# Altium schematic symbol library SelfDrivingCar_Project.SCHLIB: 54 symbols (part 1 of 2)
Pins are listed as number, name and electrical type; pins without a type are passive.

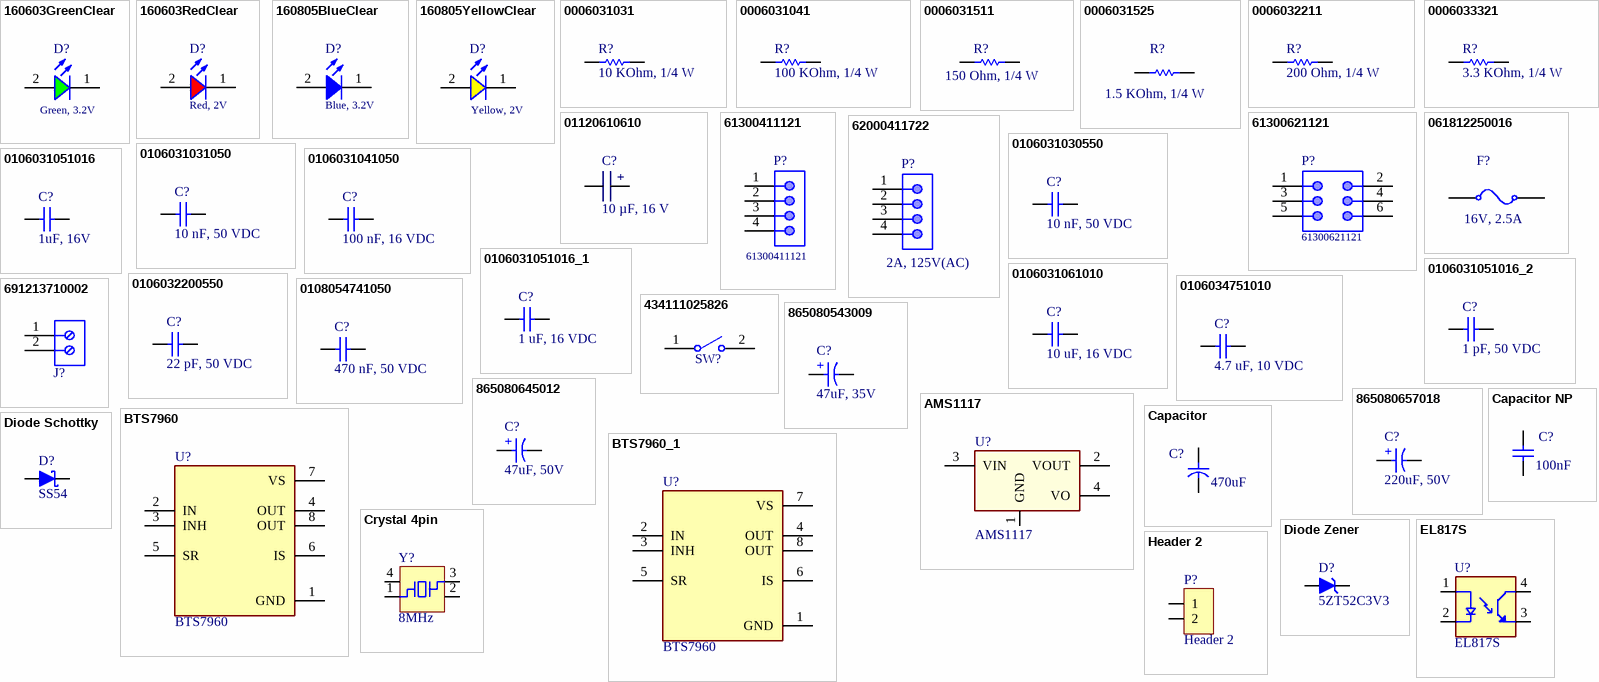
[diagram p0: symbols 160603GreenClear to Header 2]

## 160603GreenClear
designator D?, comment Green, 3.2V
WL-SMCW SMT Mono-color Chip LED Waterclear, size 0603, Green, 3.2V, 140deg; Type: Clear; Color: Green; Size: 0603; ComponentLink1Description: Datasheet link; ComponentLink1URL: N/A; ComponentLink2Description: Supplier 1 URL; ComponentLink2URL: https://www.mouser.vn/ProductDetail/Wurth-Elektronik/150060GS75000?qs=LlUlMxKIyB0UYkq5lDO8nA%3D%3D; ComponentLink3Description: Supplier 2 URL; ComponentLink3URL: https://www.digikey.com/en/products/detail/liteon/LTST-C191KGKT/386835; ComponentLink4Description: Supplier 3 URL; ComponentLink4URL: https://www.thegioiic.com/led-xanh-la-0603-dan-smd-trong-suot; Supplier 1 Name: Mouser; Supplier 1 SN: 710-150060GS75000; Supplier 1 URL: https://www.mouser.vn/ProductDetail/Wurth-Elektronik/150060GS75000?qs=LlUlMxKIyB0UYkq5lDO8nA%3D%3D; Supplier 2 Name: Digi-Key; Supplier 2 SN: 160-1446-2-ND; Supplier 2 URL: https://www.digikey.com/en/products/detail/liteon/LTST-C191KGKT/386835; Supplier 3 Name: ICDayRoi; Supplier 3 SN: N/A; Supplier 3 URL: https://www.thegioiic.com/led-xanh-la-0603-dan-smd-trong-suot; Value: Green, 3.2V
footprint WL-SMCW_0603_H=0.7mm (SMD Mono-color Chip LED, body 1.6x0.8mm)
pins: 1 K, 2 A

## 160603RedClear
designator D?, comment Red, 2V
WL-SMCW SMT Mono-color Chip LED Waterclear, size 0603, Red, 2V, 140deg; Type: Clear; Color: Red; Size: 0603; ComponentLink1Description: Datasheet link; ComponentLink1URL: N/A; ComponentLink2Description: Supplier 1 URL; ComponentLink2URL: https://www.mouser.vn/ProductDetail/Wurth-Elektronik/150060RS75000?qs=LlUlMxKIyB3QnmZ3fw%2FVCA%3D%3D; ComponentLink3Description: Supplier 2 URL; ComponentLink3URL: https://www.digikey.com/en/products/detail/liteon/LTST-C191KRKT/386837; ComponentLink4Description: Supplier 3 URL; ComponentLink4URL: https://www.thegioiic.com/led-do-0603-dan-smd-trong-suot; Supplier 1 Name: Mouser; Supplier 1 SN: 710-150060RS75000; Supplier 1 URL: https://www.mouser.vn/ProductDetail/Wurth-Elektronik/150060RS75000?qs=LlUlMxKIyB3QnmZ3fw%2FVCA%3D%3D; Supplier 2 Name: Digi-Key; Supplier 2 SN: 160-1447-2-ND; Supplier 2 URL: https://www.digikey.com/en/products/detail/liteon/LTST-C191KRKT/386837; Supplier 3 Name: ICDayRoi; Supplier 3 SN: N/A; Supplier 3 URL: https://www.thegioiic.com/led-do-0603-dan-smd-trong-suot; Value: Red, 2V
footprint WL-SMCW_0603_H=0.7mm (SMD Mono-color Chip LED, body 1.6x0.8mm)
pins: 1 K, 2 A

## 160805BlueClear
designator D?, comment Blue, 3.2V
WL-SMCW SMT Mono-color Chip LED Waterclear, size 0805, Blue, 3.2V, 140deg; Type: Clear; Color: Blue; Size: 0603; ComponentLink1Description: Datasheet link; ComponentLink1URL: N/A; ComponentLink2Description: Supplier 1 URL; ComponentLink2URL: https://www.mouser.vn/ProductDetail/Wurth-Elektronik/150080BS75000?qs=2kOmHSv6VfT2tBo3UPVqAQ%3D%3D; ComponentLink3Description: Supplier 2 URL; ComponentLink3URL: https://www.digikey.com/en/products/detail/liteon/LTST-C170TBKT/388527; ComponentLink4Description: Supplier 3 URL; ComponentLink4URL: https://www.thegioiic.com/led-xanh-duong-0805-dan-smd-trong-suot-harvatek; Supplier 1 Name: Mouser; Supplier 1 SN: 710-150080BS75000; Supplier 1 URL: https://www.mouser.vn/ProductDetail/Wurth-Elektronik/150080BS75000?qs=2kOmHSv6VfT2tBo3UPVqAQ%3D%3D; Supplier 2 Name: Digi-Key; Supplier 2 SN: 160-1579-2-ND; Supplier 2 URL: https://www.digikey.com/en/products/detail/liteon/LTST-C170TBKT/388527; Supplier 3 Name: ICDayRoi; Supplier 3 SN: N/A; Supplier 3 URL: https://www.thegioiic.com/led-xanh-duong-0805-dan-smd-trong-suot-harvatek; Value: Blue, 3.2V
footprint WL-SMCW_0805 (SMD Mono-color Chip LED, body 2.0x1.25mm)
pins: 1 K, 2 A

## 160805YellowClear
designator D?, comment Yellow, 2V
WL-SMCW SMT Mono-color Chip LED Waterclear, size 0805, Yellow, 2V, 140deg; Type: Clear; Color: Yellow; Size: 0603; ComponentLink1Description: Datasheet link; ComponentLink1URL: N/A; ComponentLink2Description: Supplier 1 URL; ComponentLink2URL: https://www.mouser.vn/ProductDetail/Wurth-Elektronik/150080YS75000?qs=LlUlMxKIyB3k0fZGrDMI2w%3D%3D; ComponentLink3Description: Supplier 2 URL; ComponentLink3URL: https://www.digikey.com/en/products/detail/liteon/LTST-C170KSKT/386781; ComponentLink4Description: Supplier 3 URL; ComponentLink4URL: https://www.thegioiic.com/led-vang-0805-dan-smd-trong-suot-harvatek; Supplier 1 Name: Mouser; Supplier 1 SN: 710-150080YS75000; Supplier 1 URL: https://www.mouser.vn/ProductDetail/Wurth-Elektronik/150080YS75000?qs=LlUlMxKIyB3k0fZGrDMI2w%3D%3D; Supplier 2 Name: Digi-Key; Supplier 2 SN: 160-1416-2-ND; Supplier 2 URL: https://www.digikey.com/en/products/detail/liteon/LTST-C170KSKT/386781; Supplier 3 Name: ICDayRoi; Supplier 3 SN: N/A; Supplier 3 URL: https://www.thegioiic.com/led-vang-0805-dan-smd-trong-suot-harvatek; Value: Yellow, 2V
footprint WL-SMCW_0805 (SMD Mono-color Chip LED, body 2.0x1.25mm)
pins: 1 K, 2 A

## 0006031031
designator R?, comment 10 KOhm, 1/4 W
RES, size 0603, 10 KOhm, 1/4 W; Manufacture  Name: OEM; Resistance: 10 KOhm; Rated Power: 1/4 W; Resistance Tolerance: +/-1%; Size: 0603; Mounting Technology: SMT; Supplier 1 Name: Mouser; Supplier 1 SN: 755-ESR03EZPF1002; Supplier 2 Name: Digi-Key; Supplier 2 SN: RHM10KADTR-ND RHM10KADCT-ND RHM10KADDKR-ND; Supplier 1 URL: https://www.mouser.vn/ProductDetail/ROHM-Semiconductor/ESR03EZPF1002?qs=sGAEpiMZZMvdGkrng054t67Efho1F8r6CDeAsqwFse8%3D; Supplier 3 Name: thegioiic; Supplier 3 SN: N/A; Supplier 3 URL: https://www.thegioiic.com/dien-tro-10-kohm-0603-1-; Manufacture  SN: OEM; Value: 10 KOhm, 1/4 W; ComponentLink1Description: Datasheet link; ComponentLink1URL: https://fscdn.rohm.com/en/products/databook/datasheet/passive/resistor/chip_resistor/esr-e.pdf; ComponentLink2Description: Supplier 1 URL; ComponentLink2URL: N/A; ComponentLink3Description: Supplier 2 URL; ComponentLink3URL: https://www.digikey.com/en/products/detail/rohm-semiconductor/ESR03EZPF1002/1983429; ComponentLink4Description: Supplier 3 URL; ComponentLink4URL: N/A; Supplier 2 URL: https://www.digikey.com/en/products/detail/rohm-semiconductor/ESR03EZPF1002/1983429
footprint resistor_0603
pins: 1, 2

## 0006031041
designator R?, comment 100 KOhm, 1/4 W
RES, size 0603, 100 KOhm, 1/4 W; Manufacture  Name: OEM; Rated Power: 1/4 W; Resistance Tolerance: +/-1%; Resistance: 100 KOhm; Size: 0603; Mounting Technology: SMT; Supplier 1 Name: Mouser; Supplier 1 SN: 603-SR0603FR-7T100KL; Supplier 2 Name: Digi-Key; Supplier 2 SN: YAG5821TR-ND YAG5821CT-ND YAG5821DKR-ND; Supplier 1 URL: https://www.mouser.vn/ProductDetail/YAGEO/SR0603FR-7T100KL?qs=sGAEpiMZZMvdGkrng054tz1y1XEHv7sNa%252BA%2F4WiDMf7aGw4zRBb%2FFQ%3D%3D; Supplier 3 Name: thegioiic; Supplier 3 SN: N/A; Supplier 3 URL: https://www.thegioiic.com/dien-tro-100-kohm-0603-1-; Manufacture  SN: OEM; Value: 100 KOhm, 1/4 W; ComponentLink1Description: Datasheet link; ComponentLink1URL: https://www.yageo.com/upload/media/product/productsearch/datasheet/rchip/PYu-SR_20105_RoHS_L_10.pdf; ComponentLink2Description: Supplier 1 URL; ComponentLink2URL: N/A; ComponentLink3Description: Supplier 2 URL; ComponentLink3URL: https://www.digikey.com/en/products/detail/yageo/SR0603FR-7T100KL/9373095; ComponentLink4Description: Supplier 3 URL; ComponentLink4URL: N/A; Supplier 2 URL: https://www.digikey.com/en/products/detail/yageo/SR0603FR-7T100KL/9373095
footprint resistor_0603
pins: 1, 2

## 0006031511
designator R?, comment 150 Ohm, 1/4 W
RES, size 0603, 150 Ohm, 1/4 W; Manufacture  Name: OEM; Resistance: 150 Ohm; Rated Power: 1/4 W; Resistance Tolerance: +/-1%; Size: 0603; Mounting Technology: SMT; Supplier 1 Name: Mouser; Supplier 1 SN: 667-ERJ-UP3F1500V; Supplier 2 Name: Digi-Key; Supplier 2 SN: 10-ERJ-UP3F1500VTR-ND 10-ERJ-UP3F1500VCT-ND 10-ERJ-UP3F1500VDKR-ND; Supplier 1 URL: https://www.mouser.vn/ProductDetail/Panasonic/ERJ-UP3F1500V?qs=sGAEpiMZZMvdGkrng054twq3eZrCFN89aN9HHZ6KB345kfMKb%252BB8mQ%3D%3D; Supplier 3 Name: thegioiic; Supplier 3 SN: N/A; Supplier 3 URL: https://thegioiic.com/dien-tro-150-ohm-0603-1-; Manufacture  SN: OEM; Value: 150 Ohm, 1/4 W; ComponentLink1Description: Datasheet link; ComponentLink1URL: https://api.pim.na.industrial.panasonic.com/file_stream/main/fileversion/4484; ComponentLink2Description: Supplier 1 URL; ComponentLink2URL: N/A; ComponentLink3Description: Supplier 2 URL; ComponentLink3URL: N/A; ComponentLink4Description: Supplier 3 URL; ComponentLink4URL: N/A; Supplier 2 URL: N/A
footprint resistor_0603
pins: 1, 2

## 0006031525
designator R?, comment 1.5 KOhm, 1/4 W
RES, size 0603, 1.5 KOhm, 1/4 W; Manufacture  Name: Panasonic; Rated Power: 1/4 W; Resistance Tolerance: +/-5%; Size: 0603; Mounting Technology: SMT; Resistance: 1.5 KOhm; Supplier 1 Name: Mouser; Supplier 1 SN: 667-ERJ-PA3J152V; Supplier 1 URL: https://www.mouser.vn/ProductDetail/Panasonic/ERJ-PA3J152V?qs=BzJM0faLVqVoRX2ZXjooUw%3D%3D; Supplier 2 Name: Digi-Key; Supplier 2 SN: P1.5KBZTR-ND - Tape & Reel (TR); Supplier 3 Name: thegioiic; Supplier 3 SN: N/A; Supplier 3 URL: https://www.thegioiic.com/dien-tro-1-5-kohm-0603-1-; Manufacture  SN: https://www.mouser.vn/ProductDetail/Panasonic/ERJ-PA3J152V?qs=BzJM0faLVqVoRX2ZXjooUw%3D%3D; Value: 1.5 KOhm, 1/4 W; ComponentLink1Description: Datasheet link; ComponentLink1URL: https://www.mouser.vn/datasheet/2/315/Panasonic_Resistors_Thick_Film_Anti_Sulf_Anti_Surg-1825099.pdf; ComponentLink2Description: Supplier 1 URL; ComponentLink2URL: N/A; ComponentLink3Description: Supplier 2 URL; ComponentLink3URL: https://www.digikey.com/en/products/detail/panasonic-electronic-components/ERJ-PA3J152V/5035991?s=N4IgTCBcDaIGxwOwFoCiAlAUsgCgQQGZMBGAVjADUQBdAXyA; ComponentLink4Description: Supplier 3 URL; ComponentLink4URL: N/A; Supplier 2 URL: https://www.digikey.com/en/products/detail/panasonic-electronic-components/ERJ-PA3J152V/5035991?s=N4IgTCBcDaIGxwOwFoCiAlAUsgCgQQGZMBGAVjADUQBdAXyA
footprint resistor_0603
pins: 1, 2

## 0006032211
designator R?, comment 200 Ohm, 1/4 W
RES, size 0603, 220 Ohm, 1/4 W; Manufacture  Name: OEM; Resistance: 200 Ohm; Rated Power: 1/4 W; Resistance Tolerance: +/-1%; Size: 0603; Mounting Technology: SMT; Supplier 1 Name: Mouser; Supplier 1 SN: 667-ERJ-UP3F2200V; Supplier 2 Name: Digi-Key; Supplier 2 SN: 10-ERJ-UP3F2200VTR-ND 10-ERJ-UP3F2200VCT-ND 10-ERJ-UP3F2200VDKR-ND; Supplier 1 URL: https://www.mouser.vn/ProductDetail/Panasonic/ERJ-UP3F2200V?qs=sGAEpiMZZMvdGkrng054twq3eZrCFN89E%252BhCXuCu3h8RslmTO1I28Q%3D%3D; Supplier 3 Name: thegioiic; Supplier 3 SN: N/A; Supplier 3 URL: https://www.thegioiic.com/dien-tro-200-ohm-0603-5-; Manufacture  SN: OEM; Value: 200 Ohm, 1/4 W; ComponentLink1Description: Datasheet link; ComponentLink1URL: https://api.pim.na.industrial.panasonic.com/file_stream/main/fileversion/4484; ComponentLink2Description: Supplier 1 URL; ComponentLink2URL: N/A; ComponentLink3Description: Supplier 2 URL; ComponentLink3URL: https://www.digikey.com/en/products/detail/panasonic-electronic-components/ERJ-UP3F2200V/12092129; ComponentLink4Description: Supplier 3 URL; ComponentLink4URL: N/A; Supplier 2 URL: https://www.digikey.com/en/products/detail/panasonic-electronic-components/ERJ-UP3F2200V/12092129
footprint resistor_0603
pins: 1, 2

## 0006033321
designator R?, comment 3.3 KOhm, 1/4 W
RES, size 0603, 3.3 KOhm, 1/4 W; Manufacture  Name: OEM; Rated Power: 1/4 W; Resistance Tolerance: +/-1%; Resistance: 3.3 KOhm; Size: 0603; Mounting Technology: SMT; Supplier 1 Name: Mouser; Supplier 1 SN: 667-ERJ-PA3F3301V; Supplier 2 Name: Digi-Key; Supplier 2 SN: 10-ERJ-UP3F3301VTR-ND 10-ERJ-UP3F3301VCT-ND 10-ERJ-UP3F3301VDKR-ND; Supplier 1 URL: https://www.mouser.vn/ProductDetail/Panasonic/ERJ-PA3F3301V?qs=sGAEpiMZZMvdGkrng054t6%2FAfIpq60YDpB2wwO%252BBqIBQy72ynM%2FI9Q%3D%3D; Supplier 3 Name: thegioiic; Supplier 3 SN: N/A; Supplier 3 URL: https://www.thegioiic.com/product/dien-tro-dan-smd?prid=6628,22791; Manufacture  SN: OEM; Value: 3.3 KOhm, 1/4 W; ComponentLink1Description: Datasheet link; ComponentLink1URL: https://api.pim.na.industrial.panasonic.com/file_stream/main/fileversion/4484; ComponentLink2Description: Supplier 1 URL; ComponentLink2URL: N/A; ComponentLink3Description: Supplier 2 URL; ComponentLink3URL: https://www.digikey.com/en/products/detail/panasonic-electronic-components/ERJ-UP3F3301V/12093093; ComponentLink4Description: Supplier 3 URL; ComponentLink4URL: N/A; Supplier 2 URL: https://www.digikey.com/en/products/detail/panasonic-electronic-components/ERJ-UP3F3301V/12093093
footprint resistor_0603
pins: 1, 2

## 01120610610
designator C?, comment 10 µF, 16 V
CAP TANT 10uF 10% 16V 1206; Manufacture  Name: KYOCERA AVX; Manufacture  SN: TPSA106K016R1000; Capacitance Tolerance: +/-10%; ComponentLink1Description: Datasheet link; ComponentLink1URL: https://datasheets.kyocera-avx.com/TAJ.pdf; ComponentLink2Description: Supplier 1 URL; ComponentLink2URL: https://www.mouser.vn/ProductDetail/KYOCERA-AVX/TPSA106K016R1000?qs=GLv2FRWg8zkKT7IxHlCjvQ%3D%3D; Size: 1206; Mounting Technology: SMT; Capacitance: 10uF; ComponentLink3Description: Supplier 2 URL; ComponentLink3URL: https://www.digikey.com/en/products/detail/kyocera-avx/TPSA106K016R1000/7536120; ComponentLink4Description: Supplier 3 URL; ComponentLink4URL: https://www.thegioiic.com/tu-tantalum-10uf-16v-1206-taja106k016rnj; Supplier 1 Name: Mouser; Supplier 1 SN: 581-TPSA106K016R1000; Supplier 1 URL: https://www.mouser.vn/ProductDetail/KYOCERA-AVX/TPSA106K016R1000?qs=GLv2FRWg8zkKT7IxHlCjvQ%3D%3D; Supplier 2 Name: Digi-Key; Supplier 2 SN: 478-10757-1-ND; Supplier 2 URL: https://www.digikey.com/en/products/detail/kyocera-avx/TPSA106K016R1000/7536120; Supplier 3 Name: thegioiic; Supplier 3 SN: N/A; Supplier 3 URL: https://www.thegioiic.com/tu-tantalum-10uf-16v-1206-taja106k016rnj; Value: 10 µF, 16 V; Rated Voltage: 16 V; ComponentLink5Description: URL; ComponentLink5URL: https://www.thegioiic.com/tu-tantalum-10uf-16v-1206-taja106k016rnj
footprint TANTALUM SMD A (SMD TIPO A 3.2x1.6x1.6)
pins: 1, 2
text: +

## 61300411121
designator P?
WR-PHD Pin Header, THT, pitch 2.54mm, Single Row, Vertical, 4p; Manufacturer: Wurth Elektronik; Pin Number: 4; Rated Current: 3A; Working Voltage: 250VAC; Withstanding Voltage: 500VAC; Contact Resistance: 20mOhm; Supply Name 1: Mouser; ComponentLink1Description: Manufacturer; ComponentLink1URL: http://www.we-online.de; ComponentLink2Description: Datasheet; ComponentLink2URL: https://www.we-online.com/catalog/datasheet/61300411121.pdf; Manufacturer Part Number: 61300411121; Published Date: May 2020; Pitch: 2.54mm; Operating Temperature: -40 to +105degC; Mounting Technology: THT; Packaging: Bag; Gender: Pin Header; Row Number: Single; Orientation: Vertical; ComponentLink3Description: Global Supply; ComponentLink3URL: https://www.we-online.com/en/components/products/PHD_2_54_THT_PIN_HEADER_6130XX11121?sq=61300411121#61300411121; ComponentLink4Description: Global Supply; ComponentLink4URL: https://www.mouser.vn/ProductDetail/Wurth-Elektronik/61300411121?qs=PhR8RmCirEYQcLLqXD8rAA%3D%3D; Supplier 1 Name: Mouser; Supplier 1 SN: 710-61300311121; Supplier 1 URL: https://www.mouser.vn/ProductDetail/Wurth-Elektronik/61300311121?qs=PhR8RmCirEYxRWFJzNKsUw%3D%3D; Supplier 2 Name: Digi-Key; Supplier 2 SN: N/A; Supplier 2 URL: N/A; Supplier 3 Name: thegioiic; Supplier 3 SN: N/A; Supplier 3 URL: N/A
footprint 61300411121
pins: 1, 2, 3, 4

## 61300621121
designator P?
WR-PHD Pin Header, THT, pitch 2.54mm, Dual Row, Vertical, 6p; Manufacturer: Wurth Elektronik; Pin Number: 6; Rated Current: 3A; Working Voltage: 250VAC; Withstanding Voltage: 500VAC; Contact Resistance: 20mOhm; Supply name 1: Mouser; ComponentLink1Description: Manufacturer; ComponentLink1URL: http://www.we-online.de; ComponentLink2Description: Datasheet; ComponentLink2URL: https://www.we-online.com/catalog/datasheet/61300621121.pdf; Manufacturer Part Number: 61300621121; Published Date: May 2020; Pitch: 2.54mm; Operating Temperature: -40 to +105degC; Mounting Technology: THT; Packaging: Bag; Gender: Pin Header; Row Number: Dual; Orientation: Vertical; ComponentLink3Description: Global Supply; ComponentLink3URL: https://www.we-online.com/en/components/products/PHD_2_54_THT_DUAL_PIN_HEADER_6130XX21121?sq=61300621121#61300621121; ComponentLink4Description: Global Supply; ComponentLink4URL: https://www.mouser.vn/ProductDetail/Wurth-Elektronik/61300621121?qs=PhR8RmCirEb94hrEcn0AQg%3D%3D; Supplier 1 Name: Mouser; Supplier 1 SN: 710-61300621121; Supplier 1 URL: https://www.mouser.vn/ProductDetail/Wurth-Elektronik/61300621121?qs=PhR8RmCirEb94hrEcn0AQg%3D%3D; Supplier 2 Name: Digi-Key; Supplier 2 SN: N/A; Supplier 2 URL: N/A; Supplier 3 Name: thegioiic; Supplier 3 SN: N/A; Supplier 3 URL: N/A
footprint 61300621121
pins: 1, 2, 3, 4, 5, 6

## 061812250016
designator F?, comment 16V, 2.5A
Resettable Fuse, Size 1812, 16V, 2.5A; Manufacturer: Bourns; Threshold Current: 100A; Trip Current: 5A; Threshold Voltage: 16V; Hold Current: 2.5A; Size: 1812; Mounting Technology: SMT/SMD; ComponentLink1Description: Datasheet link; ComponentLink1URL: https://www.bourns.com/docs/Product-Datasheets/mfnsmf.pdf; ComponentLink2Description: Supplier 1 URL; ComponentLink2URL: https://www.mouser.vn/ProductDetail/Bourns/MF-MSMF250-16X-2?qs=9fn1gpisni78zr7pGyDhCQ%3D%3D; ComponentLink3Description: Supplier 2 URL; ComponentLink3URL: https://www.digikey.com/en/products/detail/bourns-inc/MF-MSMF250-16X-2/2563289; ComponentLink4Description: Supplier 3 URL; ComponentLink4URL: https://www.thegioiic.com/mf-msmf250-16-cau-chi-tu-phuc-hoi-1812-16v-2-5a; Supplier 1 Name: Mouser; Supplier 1 SN: 652-MF-MSMF250/16X-2; Supplier 1 URL: https://www.mouser.vn/ProductDetail/Bourns/MF-MSMF250-16X-2?qs=9fn1gpisni78zr7pGyDhCQ%3D%3D; Supplier 2 Name: Digi-Key; Supplier 2 SN: MF-MSMF250/16X-2TR-ND; Supplier 2 URL: https://www.mouser.vn/ProductDetail/Bourns/MF-MSMF250-16X-2?qs=9fn1gpisni78zr7pGyDhCQ%3D%3D; Supplier 3 Name: thegioiic; Supplier 3 SN: MF-MSMF250/16; Supplier 3 URL: https://www.thegioiic.com/mf-msmf250-16-cau-chi-tu-phuc-hoi-1812-16v-2-5a; Value: 16V, 2.5A
footprint Fuse_SMD_1812 (Fuse SMD, size 1812)
pins: 0, 1

## 62000411722
designator P?, comment 2A, 125V(AC)
WR-WTB THT Male Horizontal Shrouded Header, pitch 2mm, 4p; Part Number: 62000411722; Pin Number: 4; Contact Resistance: 20mOhm; Withstanding Voltage: 800VAC; Working Voltage: 125VAC; ComponentLink1Description: Manufacturer; ComponentLink1URL: http://www.we-online.de; ComponentLink2Description: Datasheet; ComponentLink2URL: https://www.we-online.com/catalog/datasheet/62000411722.pdf; Pitch: 2mm; Published Date: January 2020; Publisher: Wurth Elektronik; Mounting Technology: THT; Packaging: Bag; Operating Temperature: -25 to +85degC; Gender: Male; Type: Horizontal; Rated Current: 2A; ComponentLink3Description: Global Supply; ComponentLink3URL: https://www.we-online.com/en/components/products/WTB_2_00_MALE_HORIZONTAL_SHROUDED_HEADER_6200XX11722?sq=62000411722#62000411722; ComponentLink4Description: Global Supply; ComponentLink4URL: https://www.mouser.vn/ProductDetail/Wurth-Elektronik/62000411722?qs=ulEaXIWI0c%2FFrQs6mYW8Wg%3D%3D; Supplier 1 Name: Mouser; Supplier 1 SN: 710-62000411722; Supplier 1 URL: https://www.mouser.vn/ProductDetail/Wurth-Elektronik/62000411722?qs=ulEaXIWI0c%2FFrQs6mYW8Wg%3D%3D; Supplier 2 Name: Digi-Key; Supplier 2 SN: N/A; Supplier 2 URL: N/A; Supplier 3 Name: thegioiic; Supplier 3 SN: N/A; Supplier 3 URL: N/A; Value: 2A, 125V(AC)
footprint 62000411722
pins: 1, 2, 3, 4

## 0106031030550
designator C?, comment 10 nF, 50 VDC
CAP, size 0603, 10 nF, 50 VDC; Manufacture Name: TDK; Manufacture SN: CGA3E2C0G1H103J080AE; Capacitance: 10 nF; Tolerance: +/-5%; Voltage Rating DC: 50 VDC; ComponentLink2Description: Datasheet; ComponentLink2URL: https://product.tdk.com/system/files/dam/doc/product/capacitor/ceramic/mlcc/catalog/mlcc_automotive_soft_en.pdf?ref_disty=mouser; Operating Temperature: -55 to +125degC; Packaging: Tape and Reel; Mounting Technology: SMT; Size: 0603; Supplier 1 Name: Mouser; Supplier 1 SN: 810-CGA3E2C0G1H103J8; Supplier 1 URL: https://www.mouser.com/ProductDetail/TDK/CGA3E2C0G1H103J080AE?qs=P1JMDcb91o6ZkMITrWTUZQ%3D%3D&utm_source=mouser-refine-download&utm_medium=file&utm_campaign=CGA3E2C0G1H103J080AE&utm_content=TDK; Supplier 2 Name: Digi-Key; Supplier 2 SN: 445-CGA3E2C0G1H103J080AETR-ND; Supplier 2 URL: https://www.digikey.com/en/products/detail/tdk-corporation/cga3e2c0g1h103j080ae/11697946; Supplier 3 Name: thegioiic; Supplier 3 SN: N/A; Supplier 3 URL: https://www.thegioiic.com/product/tu-gom-dan-smd?prid=6679,5762; Value: 10 nF, 50 VDC
footprint CAP_0603
pins: 1, 2

## 0106031031050
designator C?, comment 10 nF, 50 VDC
CAP, size 0603, 10 nF, 50 VDC; Manufacture Name: TDK; Manufacture SN: CGA3E2X8R1H103K080AA; Capacitance: 10 nF; Tolerance: +/-10%; Voltage Rating DC: 50 VDC; ComponentLink2Description: Datasheet; ComponentLink2URL: https://product.tdk.com/system/files/dam/doc/product/capacitor/ceramic/mlcc/catalog/mlcc_automotive_hightemp_en.pdf?ref_disty=mouser; Operating Temperature: -55 to +125degC; Packaging: Tape and Reel; Mounting Technology: SMT; Size: 0603; Supplier 1 Name: Mouser; Supplier 1 SN: 810-CGA3E2X8R1H103K; Supplier 1 URL: https://www.mouser.com/ProductDetail/TDK/CGA3E2X8R1H103K080AA?qs=NRhsANhppD89WrzFr8uamw%3D%3D&utm_source=mouser-refine-download&utm_medium=file&utm_campaign=CGA3E2X8R1H103K080AA&utm_content=TDK; Supplier 2 Name: Digi-Key; Supplier 2 SN: 445-5892-2-ND; Supplier 2 URL: https://www.digikey.com/en/products/detail/tdk-corporation/cga3e2x8r1h103k080aa/2443370; Supplier 3 Name: thegioiic; Supplier 3 SN: N/A; Supplier 3 URL: N/Ahttps://www.thegioiic.com/tu-gom-0603-10nf-50v; Value: 10 nF, 50 VDC
footprint CAP_0603
pins: 1, 2

## 0106031041050
designator C?, comment 100 nF, 16 VDC
CAP, size 0603, 100 nF, 16 VDC; Manufacture Name: TDK; Manufacture SN: CGA3E3X8R1H104K080AE; Capacitance: 100 nF; Tolerance: +/-10%; Voltage Rating DC: 16 VDC; ComponentLink2Description: Datasheet; ComponentLink2URL: https://product.tdk.com/system/files/dam/doc/product/capacitor/ceramic/mlcc/catalog/mlcc_automotive_soft_en.pdf?ref_disty=mouser; Operating Temperature: -55 to +125degC; Packaging: Tape and Reel; Mounting Technology: SMT; Size: 0603; Supplier 1 Name: Mouser; Supplier 1 SN: 810-CGA3E3X8R1H104KA; Supplier 1 URL: https://www.mouser.com/ProductDetail/TDK/CGA3E3X8R1H104K080AE?qs=nQSIdc08i%252Bd8g3IRRgU2bw%3D%3D&utm_source=mouser-refine-download&utm_medium=file&utm_campaign=CGA3E3X8R1H104K080AE&utm_content=TDK; Supplier 2 Name: Digi-Key; Supplier 2 SN: 445-173697-2-ND; Supplier 2 URL: https://www.digikey.com/en/products/detail/tdk-corporation/cga3e3x8r1h104k080ae/5809262; Supplier 3 Name: thegioiic; Supplier 3 SN: N/A; Supplier 3 URL: https://www.thegioiic.com/tu-gom-0603-100nf-0-1uf-16v; Value: 100 nF, 16 VDC
footprint CAP_0603
pins: 1, 2

## 0106031051016
designator C?, comment 1uF, 16V
CAP, size 0603, 1 uF, 16 VDC; Manufacture Name: Samsung Electro-Mechanics; Manufacture SN: CL10B105KO8NNWC; Tolerance: +/-10%; Voltage Rating DC: 16 VDC; ComponentLink2Description: Datasheet; ComponentLink2URL: https://www.mouser.vn/datasheet/2/585/Samsung_MLCC_1837944-1929650.pdf; Operating Temperature: -55 to +125degC; Packaging: Tape and Reel; Mounting Technology: SMT; Size: 0603; Capacitance: 1 uF; Supplier 1 Name: Mouser; Supplier 1 SN: 187-CL10B105KO8NNWC; Supplier 1 URL: https://www.mouser.vn/ProductDetail/Samsung-Electro-Mechanics/CL10B105KO8NNWC?qs=81r%252BiQLm7BT%252BXtc72qn1ug%3D%3D&utm_source=mouser-refine-download&utm_medium=file&utm_campaign=CL10B105KO8NNWC&utm_content=Samsung-Electro-Mechanics; Supplier 2 Name: Digi-Key; Supplier 2 SN: 1276-CL10B105KO8NNWCTR-ND; Supplier 2 URL: https://www.digikey.com/en/products/detail/samsung-electro-mechanics/cl10b105ko8nnwc/16572783; Supplier 3 Name: thegioiic; Supplier 3 SN: N/A; Supplier 3 URL: https://www.thegioiic.com/tu-gom-0603-1uf-16v; Value: 1 uF, 16 VDC
footprint CAP_0603
pins: 1, 2

## 0106031051016_1
designator C?, comment 1 uF, 16 VDC
CAP, size 0603, 1 uF, 16 VDC; Manufacture Name: Samsung Electro-Mechanics; Manufacture SN: CL10B105KO8NNWC; Capacitance: 1 uF; Tolerance: +/-10%; Voltage Rating DC: 16 VDC; ComponentLink2Description: Datasheet; ComponentLink2URL: https://www.mouser.vn/datasheet/2/585/Samsung_MLCC_1837944-1929650.pdf; Operating Temperature: -55 to +125degC; Packaging: Tape and Reel; Mounting Technology: SMT; Size: 0603; Supplier 1 Name: Mouser; Supplier 1 SN: 187-CL10B105KO8NNWC; Supplier 1 URL: https://www.mouser.vn/ProductDetail/Samsung-Electro-Mechanics/CL10B105KO8NNWC?qs=81r%252BiQLm7BT%252BXtc72qn1ug%3D%3D&utm_source=mouser-refine-download&utm_medium=file&utm_campaign=CL10B105KO8NNWC&utm_content=Samsung-Electro-Mechanics; Supplier 2 Name: Digi-Key; Supplier 2 SN: 1276-CL10B105KO8NNWCTR-ND; Supplier 2 URL: https://www.digikey.com/en/products/detail/samsung-electro-mechanics/cl10b105ko8nnwc/16572783; Supplier 3 Name: thegioiic; Supplier 3 SN: N/A; Supplier 3 URL: https://www.thegioiic.com/tu-gom-0603-1uf-16v; Value: 1 uF, 16 VDC
footprint CAP_0603
pins: 1, 2

## 0106031051016_2
designator C?, comment 1 pF, 50 VDC
CAP, size 0603, 1 pF, 50 VDC; Manufacture Name: Samsung Electro-Mechanics; Manufacture SN: CL10B105KO8NNWC; Capacitance: 1 uF; Tolerance: +/-10%; Voltage Rating DC: 50 VDC; ComponentLink2Description: Datasheet; ComponentLink2URL: https://www.mouser.vn/datasheet/2/585/Samsung_MLCC_1837944-1929650.pdf; Operating Temperature: -55 to +125degC; Packaging: Tape and Reel; Mounting Technology: SMT; Size: 0603; Supplier 1 Name: Mouser; Supplier 1 SN: 187-CL10B105KO8NNWC; Supplier 1 URL: https://www.mouser.vn/ProductDetail/Samsung-Electro-Mechanics/CL10B105KO8NNWC?qs=81r%252BiQLm7BT%252BXtc72qn1ug%3D%3D&utm_source=mouser-refine-download&utm_medium=file&utm_campaign=CL10B105KO8NNWC&utm_content=Samsung-Electro-Mechanics; Supplier 2 Name: Digi-Key; Supplier 2 SN: 1276-CL10B105KO8NNWCTR-ND; Supplier 2 URL: https://www.digikey.com/en/products/detail/samsung-electro-mechanics/cl10b105ko8nnwc/16572783; Supplier 3 Name: thegioiic; Supplier 3 SN: N/A; Supplier 3 URL: https://www.thegioiic.com/tu-gom-0603-1uf-16v; Value: 1 pF, 50 VDC
footprint CAP_0603
pins: 1, 2

## 0106031061010
designator C?, comment 10 uF, 16 VDC
CAP, size 0603, 10 uF, 16 VDC; Manufacture Name: Samsung Electro-Mechanics; Manufacture SN: CL10A106KP8NNWC; Capacitance: 10 uF; Tolerance: +/-10%; Voltage Rating DC: 16 VDC; ComponentLink2Description: Datasheet; ComponentLink2URL: https://www.mouser.vn/datasheet/2/585/MLCC-1837944.pdf; Operating Temperature: -55 to +125degC; Packaging: Tape and Reel; Mounting Technology: SMT; Size: 0603; Supplier 1 Name: Mouser; Supplier 1 SN: 187-CL10A106KP8NNWC; Supplier 1 URL: https://www.mouser.vn/ProductDetail/Samsung-Electro-Mechanics/CL10A106KP8NNWC?qs=xZ%2FP%252Ba9zWqZx8LSX23YqWA%3D%3D&utm_source=mouser-refine-download&utm_medium=file&utm_campaign=CL10A106KP8NNWC&utm_content=Samsung-Electro-Mechanics; Supplier 2 Name: Digi-Key; Supplier 2 SN: 1276-CL10A106KP8NNWCTR-ND; Supplier 2 URL: https://www.digikey.com/en/products/detail/samsung-electro-mechanics/cl10a106kp8nnwc/16572907; Supplier 3 Name: thegioiic; Supplier 3 SN: N/A; Supplier 3 URL: https://www.thegioiic.com/tu-gom-0603-10uf-16v; Value: 10 uF, 16 VDC
footprint CAP_0603
pins: 1, 2

## 0106032200550
designator C?, comment 22 pF, 50 VDC
CAP, size 0603, 22 pF, 50 VDC; Manufacture Name: TDK; Manufacture SN: CGA3E2NP01H220J080AA; Capacitance: 22 pF; Tolerance: +/-5%; Voltage Rating DC: 50 VDC; ComponentLink2Description: Datasheet; ComponentLink2URL: https://product.tdk.com/system/files/dam/doc/product/capacitor/ceramic/mlcc/catalog/mlcc_automotive_hightemp_en.pdf?ref_disty=mouser; Operating Temperature: -55 to +125degC; Packaging: Tape and Reel; Mounting Technology: SMT; Size: 0603; Supplier 1 Name: Mouser; Supplier 1 SN: 810-CGA3E2NP01H220JA; Supplier 1 URL: https://www.mouser.com/ProductDetail/TDK/CGA3E2NP01H220J080AA?qs=xLDY6iXSiQbIDiPJq57tVA%3D%3D&utm_source=mouser-refine-download&utm_medium=file&utm_campaign=CGA3E2NP01H220J080AA&utm_content=TDK; Supplier 2 Name: Digi-Key; Supplier 2 SN: 445-12401-2-ND; Supplier 2 URL: https://www.digikey.com/en/products/detail/tdk-corporation/cga3e2np01h220j080aa/3949637; Supplier 3 Name: thegioiic; Supplier 3 SN: N/A; Supplier 3 URL: https://www.thegioiic.com/tu-gom-0603-22pf-50v; Value: 22 pF, 50 VDC
footprint CAP_0603
pins: 1, 2

## 0106034751010
designator C?, comment 4.7 uF, 10 VDC
CAP, size 0603, 4.7 uF, 10 VDC; Manufacture Name: Samsung Electro-Mechanics; Manufacture SN: CL10A475KP8NNWC; Capacitance: 4.7 uF; Tolerance: +/-10%; Voltage Rating DC: 10 VDC; ComponentLink2Description: Datasheet; ComponentLink2URL: https://www.mouser.vn/datasheet/2/585/Samsung_MLCC_1837944-1929650.pdf; Operating Temperature: -55 to +125degC; Packaging: Tape and Reel; Mounting Technology: SMT; Size: 0603; Supplier 1 Name: Mouser; Supplier 1 SN: 187-CL10A475KP8NNWC; Supplier 1 URL: https://www.mouser.vn/ProductDetail/Samsung-Electro-Mechanics/CL10A475KP8NNWC?qs=81r%252BiQLm7BQyXBb52PEUBA%3D%3D&utm_source=mouser-refine-download&utm_medium=file&utm_campaign=CL10A475KP8NNWC&utm_content=Samsung-Electro-Mechanics; Supplier 2 Name: Digi-Key; Supplier 2 SN: 1276-CL10A475KP8NNWCTR-ND; Supplier 2 URL: https://www.digikey.com/en/products/detail/samsung-electro-mechanics/cl10a475kp8nnwc/16572736; Supplier 3 Name: thegioiic; Supplier 3 SN: N/A; Supplier 3 URL: https://www.thegioiic.com/tu-gom-0603-4-7uf-25v; Value: 4.7 uF, 10 VDC
footprint CAP_0603
pins: 1, 2

## 0108054741050
designator C?, comment 470 nF, 50 VDC
CAP, size 0805, 470 nF, 50 VDC; Manufacture Name: TDK; Manufacture SN: CGA4J3X7R1H474K125AE; Capacitance: 470 nF; Tolerance: +/-10%; Voltage Rating DC: 50 VDC; ComponentLink2Description: Datasheet; ComponentLink2URL: https://product.tdk.com/system/files/dam/doc/product/capacitor/ceramic/mlcc/catalog/mlcc_automotive_soft_en.pdf?ref_disty=mouser; Operating Temperature: -55 to +125degC; Packaging: Tape and Reel; Mounting Technology: SMT; Size: 0805; Supplier 1 Name: Mouser; Supplier 1 SN: 810-CGA4J3X7R1H474KS; Supplier 1 URL: https://www.mouser.vn/ProductDetail/TDK/CGA4J3X7R1H474K125AE?qs=FxQuwy19cyDyq8KZpp3nzQ%3D%3D&utm_source=mouser-refine-download&utm_medium=file&utm_campaign=CGA4J3X7R1H474K125AE&utm_content=TDK; Supplier 2 Name: Digi-Key; Supplier 2 SN: 445-8786-2-ND; Supplier 2 URL: https://www.digikey.com/en/products/detail/tdk-corporation/cga4j3x7r1h474k125ae/3248496; Supplier 3 Name: thegioiic; Supplier 3 SN: OEM; Supplier 3 URL: https://www.thegioiic.com/tu-gom-0805-470nf-50v; Value: 470 nF, 50 VDC
footprint CAP_0805
pins: 1, 2

## 434111025826
designator SW?  (value not drawn)
WS-TASV SMT Tact Switch, L6 x W3.8 x H2.5mm, 260g, SPST-NO, 12V, 50mA; Manufacturer: Wurth Elektronik; Washable: No; Rated Voltage: 12VDC; Manufacturer Part Number: 434111025826; Category: Tact Switches; Match Code: WS-TASV; ComponentLink2Description: Datasheet Link; ComponentLink2URL: https://www.we-online.com/redexpert/spec/434111025826?ad; Mount: Surface Mount; Operating Temperature Max: 85°C; Operating Temperature Min: -40°C; Packaging: Tape and Reel; Length: 6mm; Width: 3.8mm; Height: 2.5mm; Circuit: SPST-NO; Contact Material: Stainless Steel; Operation Force: 260g; Rated Current: 50mA; Terminal Material: Copper Alloy; Terminal Plating: Silver; Supplier 1 Name: Mouser; Supplier 1 SN: 710-434111025826; Supplier 1 URL: https://www.mouser.vn/ProductDetail/Wurth-Elektronik/434111025826?qs=wr8lucFkNMV8GC0fIi%2FYYw%3D%3D; Supplier 2 Name: Digi-Key; Supplier 2 SN: 732-7039-2-ND; Supplier 2 URL: https://www.digikey.com/en/products/detail/w%C3%BCrth-elektronik/434111025826/5209072; Supplier 3 Name: Thegioiic; Supplier 3 SN: N/A; Supplier 3 URL: https://www.thegioiic.com/nut-nhan-6x3-8mm-cao-2-5mm-2-chan-smd-dau-xanh-thuong-dong
footprint WS-TASV_L6W3.8H2.5_4341x10258x6
pins: 1, 2

## 691213710002
designator J?, comment 16A, 300V  (value not drawn)
WR-TBL Series 213 Horizontal Entry Modular, THT, pitch 5mm, 2p; Manufacturer Part Number: 691213710002; Manufacturer: Wurth Elektronik; Modularity: Yes; Rated Current: 10A; ComponentLink1Description: Datasheet Link; ComponentLink1URL: https://www.we-online.com/redexpert/spec/691213710002?ad; ComponentLink2Description: Supplier 1 URL; ComponentLink2URL: N/A; Category: Terminal Blocks; Match Code: WR-TBL; Mount: Through Hole; Operating Temperature Max: 105°C; Operating Temperature Min: -40°C; Packaging: Box; Application: Rising Cage Clamp; Number of Pins: 2; Number of Rows: 1; Orientation: Horizontal; Pitch: 5mm; Working Voltage: 300V; ComponentLink3Description: Supplier 2 URL; ComponentLink3URL: N/A; ComponentLink4Description: Supplier 3 URL; ComponentLink4URL: https://www.thegioiic.com/kf128-2-v-domino-2-chan-thang-5mm-300v-10a-han-pcb-loai-tot; Supplier 1 Name: Mouser; Supplier 1 SN: N/A; Supplier 1 URL: N/A; Supplier 2 Name: Digi-Key; Supplier 2 SN: N/A; Supplier 2 URL: N/A; Supplier 3 Name: thegioiic; Supplier 3 SN: N/A; Supplier 3 URL: https://www.thegioiic.com/kf128-2-v-domino-2-chan-thang-5mm-300v-10a-han-pcb-loai-tot; Value: 16A, 300V
footprint 691213710002
pins: 1, 2

## 865080543009
designator C?, comment 47uF, 35V
V-Chip, D6.3 x H5.5mm, 47uF, 35V; Manufacturer: Wurth Elektronik; Capacitance Tolerance: +/-20%; Dissipation Factor: 14%; Endurance: 2000h; Leakage Current: 16.45uA; Ripple Current: 240mA; Category: Aluminum Electrolytic Capacitors; ComponentLink2Description: Datasheet Link; ComponentLink2URL: https://www.we-online.com/redexpert/spec/865080543009?ad; Mount: Surface Mount; Operating Temperature Max: 105°C; Operating Temperature Min: -55°C; Packaging: Tape and Reel; Height: 5.5mm; Diameter: 6.3mm; Capacitance: 47uF; Rated Voltage (DC): 35V; Supplier 1 Name: Mouser; Supplier 1 SN: 710-865080543009; Supplier 3 URL: https://www.thegioiic.com/tu-nhom-smd-47uf-35v-6-3x5-4mm; Supplier 3 Name: thegioiic; Supplier 1 URL: https://www.mouser.com/ProductDetail/Wurth-Elektronik/865080543009?qs=0KOYDY2FL2%2F%252BYmhMLtEhDQ%3D%3D; Manufacturer Part Number: N/A; Supplier 2 Name: Digi-Key; Supplier 2 SN: N/A; Supplier 2 URL: N/A; Supplier 3 SN: N/A; Value: 47uF, 35V
footprint WCAP-ASLI_D6.3H5.5
pins: 1 P, 2 N
text: +

## 865080645012
designator C?, comment 47uF, 50V
V-Chip, D6.3 x H7.7mm, 47uF, 50V; Manufacturer: Wurth Elektronik; Capacitance Tolerance: +/-20%; Dissipation Factor: 12%; Endurance: 2000h; Leakage Current: 23.5uA; Ripple Current: 230mA; Category: Aluminum Electrolytic Capacitors; ComponentLink2Description: Datasheet Link; ComponentLink2URL: https://www.thegioiic.com/tu-nhom-smd-47uf-50v-6-3x7-7mm; Mount: Surface Mount; Operating Temperature Max: 105°C; Operating Temperature Min: -55°C; Packaging: Tape and Reel; Height: 7.7mm; Diameter: 6.3mm; Capacitance: 47uF; Rated Voltage (DC): 50V; Supplier 1 Name: Mouser; Supplier 1 SN: 710-865080645012; Supplier 1 URL: https://www.mouser.vn/ProductDetail/Wurth-Elektronik/865080645012?qs=0KOYDY2FL2%252BvvLOdOSK4rA%3D%3D&_gl=1*1ey7vig*_ga*MTg2NTM2NjU1Mi4xNjkwOTM2MTU0*_ga_15W4STQT4T*MTY5MDkzNjE1NC4xLjAuMTY5MDkzNjE1Ny4wLjAuMA..*_ga_1KQLCYKRX3*MTY5MDkzNjE1NC4xLjAuMTY5MDkzNjE1Ny41Ny4wLjA.; Supplier 3 Name: thegioiic; Supplier 3 URL: https://www.thegioiic.com/tu-nhom-smd-47uf-50v-6-3x7-7mm; Manufacturer Part Number: N/A; Supplier 2 Name: Digi-Key; Supplier 2 SN: N/A; Supplier 2 URL: N/A; Supplier 3 SN: N/A; Value: 47uF, 50V; ComponentLink3Description: URL; ComponentLink3URL: https://www.thegioiic.com/tu-nhom-smd-47uf-50v-6-3x7-7mm
footprint WCAP-ASLI_D6.3H7.7
pins: 1 P, 2 N
text: +

## 865080657018
designator C?, comment 220uF, 50V
V-Chip, D10 x H10.5mm, 220uF, 50V; Manufacturer: Wurth Elektronik; Capacitance Tolerance: +/-20%; Dissipation Factor: 12%; Endurance: 2000h; Leakage Current: 110uA; Ripple Current: 650mA; Category: Aluminum Electrolytic Capacitors; ComponentLink2Description: Datasheet Link; ComponentLink2URL: https://www.we-online.com/redexpert/spec/865080657018?ad; Mount: Surface Mount; Operating Temperature Max: 105°C; Operating Temperature Min: -55°C; Packaging: Tape and Reel; Height: 10.5mm; Diameter: 10mm; Capacitance: 220uF; Rated Voltage (DC): 50V; Supplier 1 Name: Mouser; Supplier 1 SN: 710-865080657018; Supplier 1 URL: https://www.mouser.vn/ProductDetail/Wurth-Elektronik/865080657018?qs=0KOYDY2FL28CcgHzg1XTuA%3D%3D; Supplier 3 Name: thegioiic; Supplier 3 URL: https://www.thegioiic.com/tu-nhom-smd-220uf-50v-10x10-5mm; Manufacturer Part Number: N/A; Supplier 2 Name: Digi-Key; Supplier 2 SN: N/A; Supplier 2 URL: N/A; Supplier 3 SN: N/A; Value: 220uF, 50V; ComponentLink3Description: URL; ComponentLink3URL: https://www.thegioiic.com/tu-nhom-smd-220uf-50v-10x10-5mm
footprint WCAP-ASLI_D10H10.5
pins: 1 P, 2 N
text: +

## AMS1117
designator U?
1A LDO Voltage Regulator, ADJ or fixed 1.5/1.8/2.5/2.85/3.3/5V
footprint SOT-223 (SOT223, 4-Leads, Body 6.7x7.3mm (max), Pitch 2.30mm, IPC Medium Density)
pins: 1 GND, 2 VOUT, 3 VIN (power), 4 VO

## BTS7960
designator U?
ComponentLink1Description: URL; ComponentLink1URL: https://www.thegioiic.com/bts7960-ic-dieu-khien-dong-co-dc-27-5v-40a-to-263-7
footprint P-TO-263-7
pins: 1 GND (power), 2 IN, 3 INH, 4 OUT, 5 SR, 6 IS, 7 VS (power), 8 OUT

## BTS7960_1
designator U?, comment BTS7960
IC Control motor
footprint P-TO-263-7
pins: 1 GND (power), 2 IN, 3 INH, 4 OUT, 5 SR, 6 IS, 7 VS (power), 8 OUT

## Capacitor
designator C?, comment 470uF
Capacitor pol; ComponentLink1Description: URL; ComponentLink1URL: https://www.thegioiic.com/tu-nhom-smd-470uf-35v-10x10-5mm
footprint C SMD TAN 1206 (A) (Molded Capacitor, 2-Leads, Body 3.2x1.6mm, IPC Medium Density)
footprint C SMD TAN 2312 (C) (Molded Capacitor, 2-Leads, Body 6.0x3.2mm, IPC Medium Density)
footprint C SMD TAN 2917 (E) (Molded Capacitor, 2-Leads, Body 7.3x4.3mm, IPC Medium Density)
footprint C SMD ALU (D) (SMD Aluminum Electrolytic Capacitor, size D (6.3 x 5.4 mm))
footprint C SMD ALU (D8) (SMD Aluminum Electrolytic Capacitor, size D8 (6.3 x 7.7 mm))
footprint C SMD ALU (B) (SMD Aluminum Electrolytic Capacitor, size D (4.0 x 5.4 mm))
footprint C SMD ALU (F) (SMD Aluminum Electrolytic Capacitor, size F (8.0 x 10.2 mm))
footprint C Super Case A
footprint C Super Case B
footprint CYL/D.200/LS.75
footprint CYL/D.250/LS.100
footprint CYL/D.300/LS.150
footprint CYL/D.400/LS.200
footprint CYL/D.500/LS.200
footprint CYL/D.650/LS.300
footprint CAP/D80/H125/LS30 (Dia 8mm, Heigh 12.5mm, Lead Space 3mm (4.7uF/400V small))
footprint CAP/D80/H125/LS35 (Dia 8mm, Heigh 12.5mm, Lead Space 3.5mm (470uF/16V small))
footprint CAP/D100/H125/LS50 (Dia 8mm, Heigh 12.5mm, Lead Space 3.5mm (470uF/16V small))
footprint CAP/D80/H90/LS35 (Dia 8mm, Heigh 12.5mm, Lead Space 3mm (4.7uF/400V small))
footprint C SMD ALU (F) DUAL (SMD Aluminum Electrolytic Capacitor, size F (8.0 x 10.2 mm))
footprint C SMD ALU (D8) DUAL (SMD Aluminum Electrolytic Capacitor, size D8 (6.3 x 7.7 mm))
footprint C SMD TAN 1210 (B) (Molded Capacitor, 2-Leads, Body 6.0x3.2mm, IPC Medium Density)
footprint CAP/D100/H200/LS50 (Dia 8mm, Heigh 12.5mm, Lead Space 3.5mm (470uF/16V small))
footprint CYL/D.250/LS.100-D63H70P25
footprint CYL/D.250/LS.100-D63H112P25
footprint CYL/D.200/LS.75-D50H110P20
footprint CYL/D.200/LS.75-D50H70P20
pins: 1, 2

## Capacitor NP
designator C?, comment 100nF
Capacitor non-pol; ComponentLink1Description: URL; ComponentLink1URL: https://www.thegioiic.com/tu-gom-0603-100nf-0-1uf-50v
footprint C 0402 (Chip Capacitor, 2-Leads, Body 1.0x0.5mm, IPC Medium Density)
footprint C 0603 (Chip Capacitor, 2-Leads, Body 1.6x0.8mm, IPC Medium Density)
footprint C 0805 (Chip Capacitor, 2-Leads, Body 2.0x1.3mm, IPC Medium Density)
footprint CAP Ceramic/W550
footprint CAP Ceramic/W200
footprint CAP Ceramic/W300
footprint CC 0402 (Chip Capacitor, 2-Leads, Body 1.0x0.5mm, IPC Medium Density)
footprint C 1210
footprint C 1206
footprint CAP Ceramic/D7.0/F7.5
footprint C 0402 (1005)
pins: 1, 2

## Crystal 4pin
designator Y?, comment 8MHz
ComponentLink1Description: URL; ComponentLink1URL: https://www.thegioiic.com/thach-anh-8mhz-3225-4-chan-smd
footprint Crystal SMD 4PIN 50x32
footprint Crystal SMD 4PIN 25x20
footprint Crystal SMD 4PIN 32x25
pins: 1 XTAL, 2 GND, 3 XTAL, 4 GND

## Diode Schottky
designator D?, comment SS54
Schottky Diode; ComponentLink1Description: URL; ComponentLink1URL: https://www.thegioiic.com/ss54-sma-diode-shotky-5a-40v
footprint DO-214AB (SMC) (Molded Diode, 2-Leads, Body 7.9x5.8mm, IPC Low Density)
footprint DO-214AC (SMA) (Molded Diode, 2-Leads, Body 4.3x2.7mm, IPC Medium Density)
footprint DO-27
footprint DO-41
footprint SOD80C Reflow
footprint SOD80C Wave
footprint SOD123 (Molded Diode, 2-Leads, Body 2.7x1.6mm, IPC Medium Density)
footprint SOD323
footprint SOD523F
footprint SOD523L
footprint DO-219AB (SMF) (Molded Diode, 2-Leads, Body 3.90x1.90mm, IPC Medium Density)
pins: 1 A, 2 K

## Diode Zener
designator D?, comment 5ZT52C3V3
Zener Diode; ComponentLink1Description: URL; ComponentLink1URL: https://www.thegioiic.com/bzt52h-c3v3-diode-zener-3-3v-375mw-sod-123f
footprint DO-41
footprint DO-214AC (SMA) (Molded Diode, 2-Leads, Body 4.3x2.7mm, IPC Medium Density)
footprint DO-214AA (SMB) L
footprint SOD80C Reflow
footprint SOD80C Wave
footprint SOD123 (Molded Diode, 2-Leads, Body 2.7x1.6mm, IPC Medium Density)
footprint SOD323
footprint SOD523F
footprint SOD523L
pins: 1 A, 2 K

## EL817S
designator U?
Optocouplers 5000Vrms 1 Channel, 4-SMD; ComponentLink1Description: URL; ComponentLink1URL: https://www.thegioiic.com/el817s-transistor-output-optocouplers-5000vrms-1-channel-4-smd
footprint EL817S
pins: 1 A, 2 C, 3 ET, 4 CT

## Header 2
designator P?
Header, 2-Pin; ComponentLink1Description: URL; ComponentLink1URL: https://www.thegioiic.com/kf128-2-v-domino-2-chan-thang-3-5mm-300v-10a-han-pcb
footprint HDR/Header/2
footprint HDR/Header/2/2mm
footprint HDR/Header/2/BOX
footprint HDR/Terminal/2 (Header 2, 2 pin, hight 400mil, Pin to Pin 200mil, Colour Green)
footprint HDR/Terminal/2/4mm
footprint HDR/Terminal/2/5mm (Header 2, 2 pin, hight 400mil, Pin to Pin 200mil, Colour Green)
footprint HDR/Terminal/2/5mm/RA (Header 2, 2 pin, hight 300mil, Pin to Pin 200, Colour Green)
footprint HDR/Terminal/2/300
footprint HDR/Terminal/2/400
footprint HDR/Terminal/2/RA (Header 2, 2 pin, hight 300mil, Pin to Pin 200, Colour Green)
footprint HDR/Terminal/2/3.5mm
footprint HDR/Header/2/VH
footprint HDR/Header/2/2mm/BOX/SMD
footprint HDR/Terminal/2/KF1000
footprint HDR/Terminal/2/KF55C-10
footprint HDR/Terminal/2/ELT950 (ELT950-9.5mm-2P)
footprint HDR/Header/2/BOX/RED
pins: 1, 2

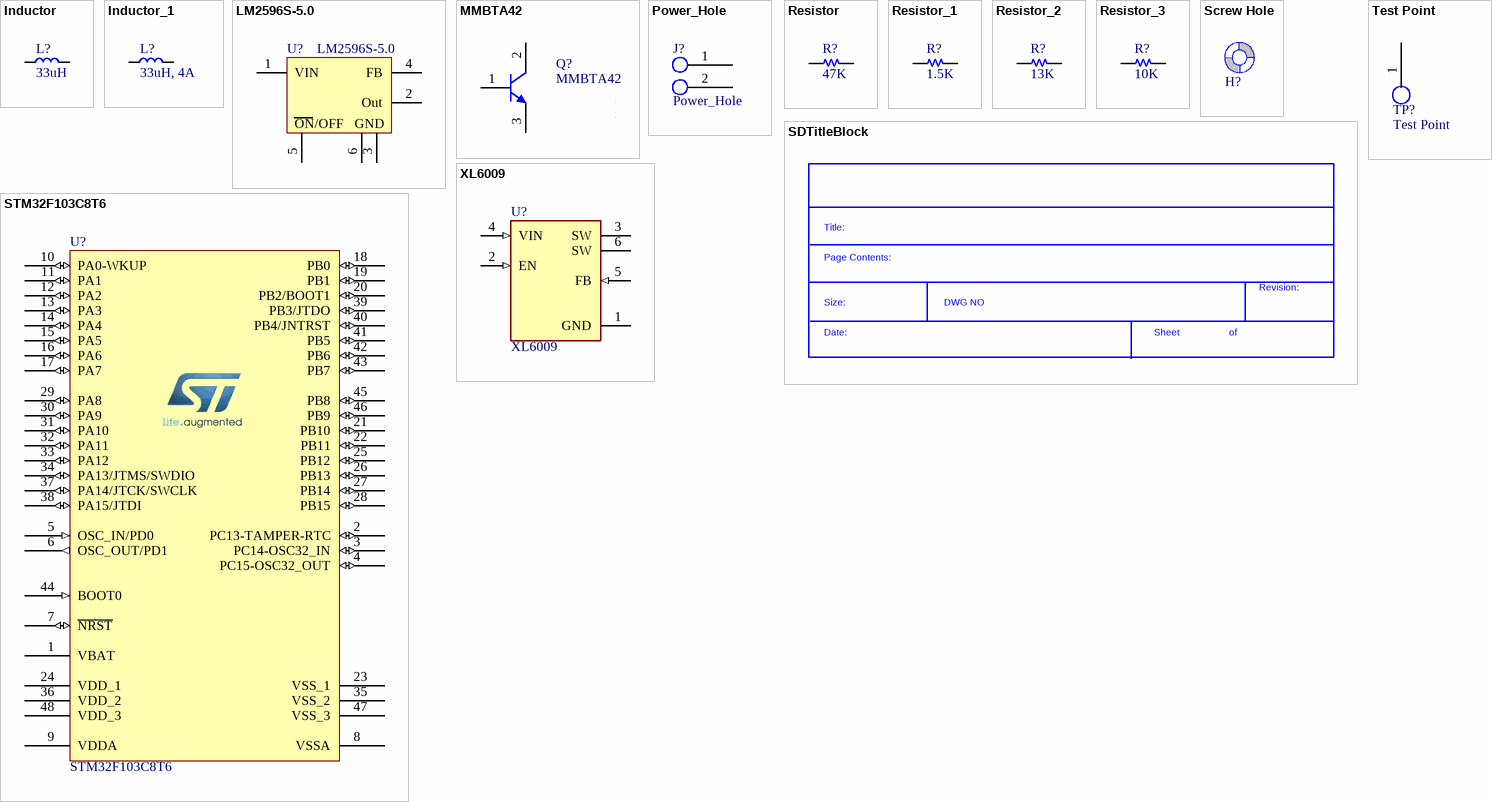
[diagram p1: symbols Inductor to XL6009]

## Inductor
designator L?, comment 33uH
Inductor; ComponentLink1Description: URL; ComponentLink1URL: https://www.thegioiic.com/cdrh127-cuon-cam-dan-smd-1280-330-33uh-4-2a
footprint Inductor SMD 12x12x8 (Precision Wire Wound Inductor, 2-Leads, Body 12.3x12.3mm, IPC Low Density)
footprint R 1/4W
footprint Inductor SMD 8.3x8.3x4.5 (Precision Wire Wound Inductor, 2-Leads, Body 10.0x8.0mm, IPC Low Density)
footprint Inductor SMD 0805 (2012) (Precision Wire Wound Inductor, 2-Leads, Body 2.0x1.2mm, IPC Medium Density)
footprint Inductor SMD 1210 (3225) (Precision Wire Wound Inductor, 2-Leads, Body 3.2x2.5mm, IPC Medium Density)
footprint Inductor SMD 7.5x7.0x5.0 (Precision Wire Wound Inductor, 2-Leads, Body 7.5x7.0mm, IPC Medium Density)
footprint Inductor SMD CDRH8D43 (Precision Wire Wound Inductor, 2-Leads, Body 10.0x8.0mm, IPC Low Density)
footprint Inductor SMD CDRH3D48 (Precision Wire Wound Inductor, 2-Leads, Body 10.0x8.0mm, IPC Low Density)
footprint Inductor SMD CDRH3D67 (Precision Wire Wound Inductor, 2-Leads, Body 10.0x8.0mm, IPC Low Density)
footprint L 0402 (1005) (Chip Capacitor, 2-Leads, Body 1.0x0.5mm, IPC Medium Density)
footprint L 0603 (1608) (Chip Capacitor, 2-Leads, Body 1.6x0.8mm, IPC Medium Density)
footprint L 0805 (2012) (Chip Capacitor, 2-Leads, Body 2.0x1.3mm, IPC Medium Density)
footprint LL 0402 (Chip Capacitor, 2-Leads, Body 1.0x0.5mm, IPC Medium Density)
footprint L/D9H12 (inductor)
footprint L/D8H10 (inductor Dia (7.80mm) Heigh (10.00mm))
footprint Inductor SMD 6.5x6.5x3.0 (Precision Wire Wound Inductor, 2-Leads, Body 10.0x8.0mm, IPC Low Density)
footprint IND_MWSA0518_525418
pins: 1, 2

## Inductor_1
designator L?, comment 33uH, 4A
Inductor; ComponentLink1Description: URL; ComponentLink1URL: https://www.thegioiic.com/cdrh127-cuon-cam-dan-smd-1280-330-33uh-4-2a
footprint Inductor SMD 12x12x8 (Precision Wire Wound Inductor, 2-Leads, Body 12.3x12.3mm, IPC Low Density)
footprint R 1/4W
footprint Inductor SMD 8.3x8.3x4.5 (Precision Wire Wound Inductor, 2-Leads, Body 10.0x8.0mm, IPC Low Density)
footprint Inductor SMD 0805 (2012) (Precision Wire Wound Inductor, 2-Leads, Body 2.0x1.2mm, IPC Medium Density)
footprint Inductor SMD 1210 (3225) (Precision Wire Wound Inductor, 2-Leads, Body 3.2x2.5mm, IPC Medium Density)
footprint Inductor SMD 7.5x7.0x5.0 (Precision Wire Wound Inductor, 2-Leads, Body 7.5x7.0mm, IPC Medium Density)
footprint Inductor SMD CDRH8D43 (Precision Wire Wound Inductor, 2-Leads, Body 10.0x8.0mm, IPC Low Density)
footprint Inductor SMD CDRH3D48 (Precision Wire Wound Inductor, 2-Leads, Body 10.0x8.0mm, IPC Low Density)
footprint Inductor SMD CDRH3D67 (Precision Wire Wound Inductor, 2-Leads, Body 10.0x8.0mm, IPC Low Density)
footprint L 0402 (1005) (Chip Capacitor, 2-Leads, Body 1.0x0.5mm, IPC Medium Density)
footprint L 0603 (1608) (Chip Capacitor, 2-Leads, Body 1.6x0.8mm, IPC Medium Density)
footprint L 0805 (2012) (Chip Capacitor, 2-Leads, Body 2.0x1.3mm, IPC Medium Density)
footprint LL 0402 (Chip Capacitor, 2-Leads, Body 1.0x0.5mm, IPC Medium Density)
footprint L/D9H12 (inductor)
footprint L/D8H10 (inductor Dia (7.80mm) Heigh (10.00mm))
footprint Inductor SMD 6.5x6.5x3.0 (Precision Wire Wound Inductor, 2-Leads, Body 10.0x8.0mm, IPC Low Density)
footprint IND_MWSA0518_525418
pins: 1, 2

## LM2596S-5.0
designator U?
Simple Switcher 3A Step-Down Voltage Regulator; ComponentLink1Description: URL; ComponentLink1URL: https://www.thegioiic.com/lm2596s-5-0-ic-dieu-chinh-giam-ap-5v-3a-to-263-5; ComponentLink2Description: New link; ComponentLink2URL: *
footprint TO-263-5 (D2-PAK, 6-Pads, Body 8.9x10.4mm (max), IPC Medium Density)
pins: 1 VIN, 2 Out, 3 GND, 4 FB, 5 ~{ON}/OFF, 6 PAD
text: ON/OFF

## MMBTA42
designator Q?
TRANS NPN, 40V, 0.2A, SOT23-3; Voltage - Collector Emitter Breakdown: 300V; Current - Collector: 500mA; DC Current Gain: 80-200; Power Dissipation: 250mW; Gain Bandwidth Product fT: 50MHz; Transistor Type: NPN; Package: SOT-23; Supplier 1 Name: Mouser; Supplier 1 SN: 637-MMBTA42; Supplier 1 URL: https://www.mouser.vn/ProductDetail/Diotec-Semiconductor/MMBTA42?qs=OlC7AqGiEDkTSphcOD18pw%3D%3D; Supplier 2 Name: Digi-Key; Supplier 2 SN: 2796-MMBTA42TR-ND; Supplier 2 URL: https://www.digikey.com/en/products/detail/diotec-semiconductor/MMBTA42/13163233; Supplier 3 Name: thegioiic; Supplier 3 SN: N/A; Supplier 3 URL: https://www.thegioiic.com/mmbt3904-1am-transistor-npn-40v-0-2a-3-chan-sot-23; Value: MMBTA42
footprint MMBT-SOT23
pins: 1 B, 2 C, 3 E

## Power_Hole
designator J?
Power Hole, THT
footprint Power_Hole_2mm_THT
pins: 1 0, 2 1

## Resistor
designator R?, comment 47K
Resistor; ComponentLink1Description: URL; ComponentLink1URL: https://www.thegioiic.com/dien-tro-47-kohm-0603-1-
footprint R 1W (Through hole resitor, axial 600mils, 1W)
footprint R 5W
footprint R 0402 (Chip Resistor, 2-Leads, Body 1.0x0.5mm, IPC Medium Density)
footprint R 0603 (Chip Resistor, 2-Leads, Body 1.6x0.8mm, IPC Medium Density)
footprint R 0805 (Chip Resistor, 2-Leads, Body 2.0x1.3mm, IPC Medium Density)
footprint R 1206 (Chip Resistor, 2-Leads, Body 3.1x1.6mm, IPC Medium Density)
footprint R 1210 (Chip Resistor, 2-Leads, Body 3.2x2.5mm, IPC Medium Density)
footprint R 1812 (Chip Resistor, 2-Leads, Body 4.5x3.2mm, IPC Medium Density)
footprint R 2010 (Chip Resistor, 2-Leads, Body 5.0x2.5mm, IPC Medium Density)
footprint R 2512 (Chip Resistor, 2-Leads, Body 6.4x3.2mm, IPC Medium Density)
footprint R 1/2W/630 (Through hole resitor, axial 600mils, 1W)
footprint R 1/4W/300 (Through hole resitor, axial 300mils, 1/4W)
footprint R 1W/500 (Through hole resitor, axial 500mils, 1W)
footprint RR 0402 (Chip Capacitor, 2-Leads, Body 1.0x0.5mm, IPC Medium Density)
footprint RES_1W_V (PANASONIC)
footprint R 0402 (1005) (Chip Resistor, 2-Leads, Body 1.0x0.5mm, IPC Medium Density)
pins: 1, 2

## Resistor_1
designator R?, comment 1.5K
Resistor; ComponentLink1Description: URL; ComponentLink1URL: https://www.thegioiic.com/dien-tro-1-5-kohm-0603-1-
footprint R 1W (Through hole resitor, axial 600mils, 1W)
footprint R 5W
footprint R 0402 (Chip Resistor, 2-Leads, Body 1.0x0.5mm, IPC Medium Density)
footprint R 0603 (Chip Resistor, 2-Leads, Body 1.6x0.8mm, IPC Medium Density)
footprint R 0805 (Chip Resistor, 2-Leads, Body 2.0x1.3mm, IPC Medium Density)
footprint R 1206 (Chip Resistor, 2-Leads, Body 3.1x1.6mm, IPC Medium Density)
footprint R 1210 (Chip Resistor, 2-Leads, Body 3.2x2.5mm, IPC Medium Density)
footprint R 1812 (Chip Resistor, 2-Leads, Body 4.5x3.2mm, IPC Medium Density)
footprint R 2010 (Chip Resistor, 2-Leads, Body 5.0x2.5mm, IPC Medium Density)
footprint R 2512 (Chip Resistor, 2-Leads, Body 6.4x3.2mm, IPC Medium Density)
footprint R 1/2W/630 (Through hole resitor, axial 600mils, 1W)
footprint R 1/4W/300 (Through hole resitor, axial 300mils, 1/4W)
footprint R 1W/500 (Through hole resitor, axial 500mils, 1W)
footprint RR 0402 (Chip Capacitor, 2-Leads, Body 1.0x0.5mm, IPC Medium Density)
footprint RES_1W_V (PANASONIC)
footprint R 0402 (1005) (Chip Resistor, 2-Leads, Body 1.0x0.5mm, IPC Medium Density)
pins: 1, 2